# Altium schematic symbol library LKAS_EPS.SchLib: 39 symbols (part 2 of 2)
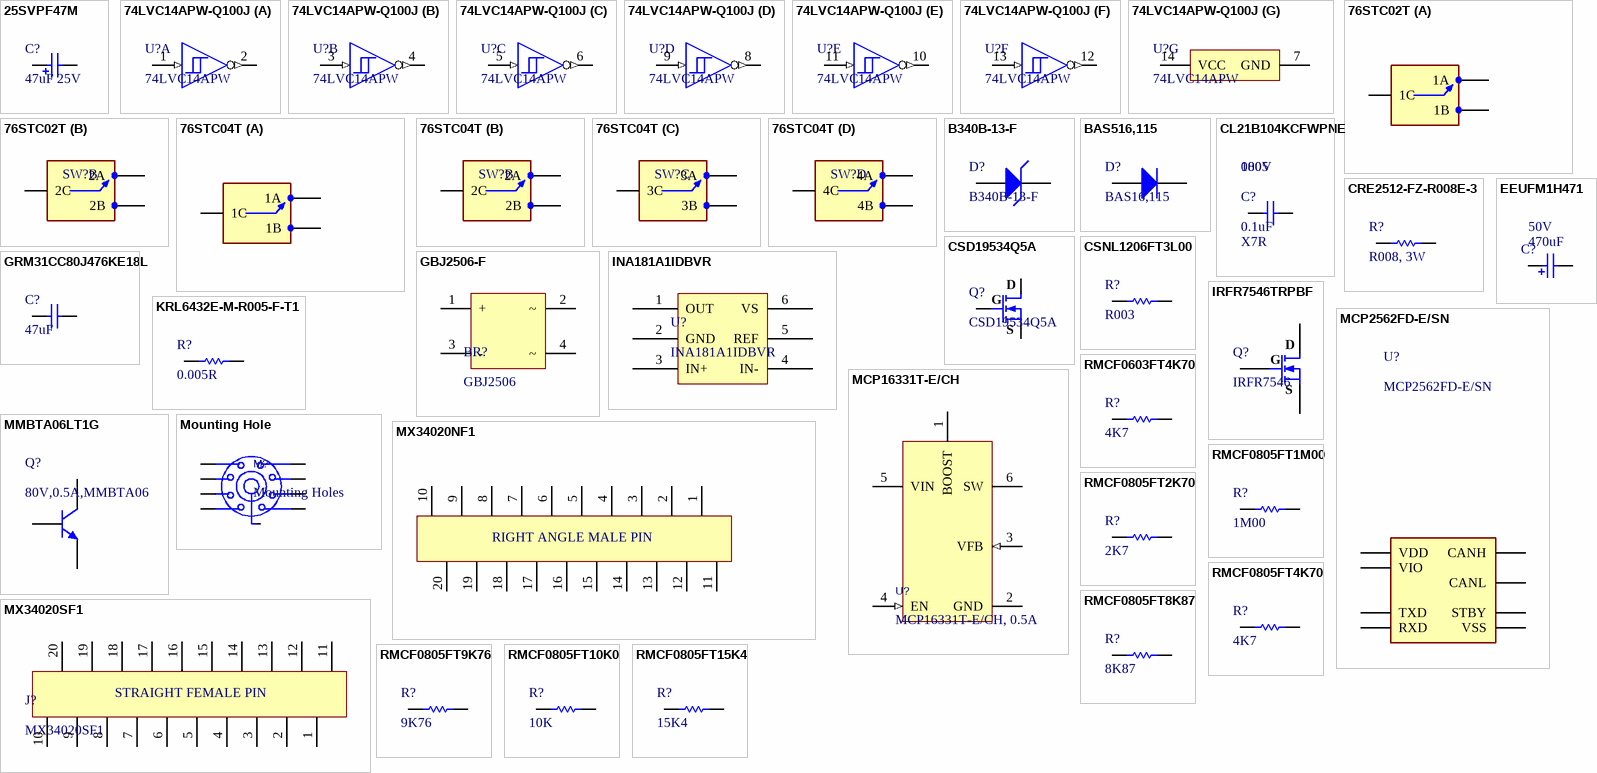
[diagram p2: symbols 25SVPF47M to RMCF0805FT15K4]

## RMCF0805FT9K76
designator R?, comment 9K76
Res Thick Film 0805 9.76K Ohm 1% 1/8W ±100ppm/°C Molded SMD SMD Paper T/R; Manufacturer: Stackpole Electronics; Manufacturer Part Number: RMCF0805FT9K76; Resistance: 9.76kR; Max Power Dissipation: 125mW; Supplier 1: Digi-Key; RoHS: Yes; Category: Chip SMD Resistors; Stock 1: 1481; Pricing 1: 1=0.10000, 10=0.02600, 100=0.01040, 1000=0.00466, 2500=0.00405 (USD); Mount: Surface Mount; Case/Package: 0805; Case Code (Metric): 2012; Case Code (Imperial): 0805; Contact Plating: Tin,Matte; Min Operating Temperature: -55°C; Max Operating Temperature: 155°C; Tolerance: 1%; Packaging: Tape and Reel; Composition: Thick Film; Number of Terminations: 2; Temperature Coefficient: 100ppm/°C; Features: Automotive AEC-Q200; Length: 0.079inch; Height: 0.026inch; Width: 0.049inch; Radiation Hardening: No; ComponentLink1URL: https://www.seielect.com/Catalog/SEI-RMCF_RMCP.pdf?src-supplier=Digi-Key; ComponentLink1Description: https://www.seielect.com/Catalog/SEI-RMCF_RMCP.pdf?src-supplier=Digi-Key; ComponentLink2URL: https://www.seielect.com/catalog/SEI-RMCF_RMCP.pdf?src-supplier=Avnet; ComponentLink2Description: https://www.seielect.com/catalog/SEI-RMCF_RMCP.pdf?src-supplier=Avnet; ComponentLink3URL: https://www.seielect.com/catalog/SEI-Packaging.pdf?src-supplier=Digi-Key; ComponentLink3Description: https://www.seielect.com/catalog/SEI-Packaging.pdf?src-supplier=Digi-Key; Supplier Part Number 1: RMCF0805FT9K76CT-ND
footprint R0805
pins: 1, 2

## RMCF0805FT10K0
designator R?, comment 10K
RES 10K OHM 1% 1/8W 0805; Manufacturer: Stackpole Electronics; Manufacturer Part Number: RMCF0805FT10K0; Resistance: 10kR; Power Rating: 125mW; Temperature Coefficient: 100ppm/°C; Supplier 1: Digi-Key; Stock 1: 3695260; Pricing 1: 1=0.10000, 10=0.02700, 100=0.01090, 1000=0.00490, 2500=0.00425 (USD); RoHS: Yes; Mount: Surface Mount; Case/Package: 0805; Case Code (Metric): 2012; Case Code (Imperial): 0805; Contact Plating: Tin,Matte; Min Operating Temperature: -55°C; Max Operating Temperature: 155°C; Tolerance: 1%; Packaging: Tape and Reel; Composition: Thick Film; Number of Terminations: 2; Military Standard: Not; Max Power Dissipation: 125mW; Features: Automotive AEC-Q200; Length: 2mm; Height: 0.026inch; Width: 0.049inch; Depth: 1.25mm; Radiation Hardening: No; Lead Free: Lead Free; ComponentLink1URL: https://datasheet.ciiva.com/15193/getdatasheetpartid-362046-15193525.pdf?src-supplier=Verical; ComponentLink1Description: https://datasheet.ciiva.com/15193/getdatasheetpartid-362046-15193525.pdf?src-supplier=Verical; Supplier Part Number 1: RMCF0805FT10K0CT-ND
footprint R0805
pins: 1, 2

## RMCF0805FT15K4
designator R?, comment 15K4
RES 15.4K OHM 1% 1/8W 0805; Manufacturer: Stackpole Electronics; Manufacturer Part Number: RMCF0805FT15K4; Resistance: 15.4kR; Max Power Dissipation: 125mW; Temperature Coefficient: 100ppm/°C; Supplier 1: Digi-Key; RoHS: Yes; Category: Chip SMD Resistors; Stock 1: 1287; Pricing 1: 1=0.10000, 10=0.02600, 100=0.01040, 1000=0.00466, 2500=0.00405 (USD); Mount: Surface Mount; Case/Package: 0805; Case Code (Metric): 2012; Case Code (Imperial): 0805; Contact Plating: Tin,Matte; Min Operating Temperature: -55°C; Max Operating Temperature: 155°C; Tolerance: 1%; Packaging: Tape and Reel; Composition: Thick Film; Number of Terminations: 2; Military Standard: Not; Features: Automotive AEC-Q200; Length: 0.079inch; Height: 0.026inch; Width: 0.049inch; Depth: 1.25mm; Radiation Hardening: No; ComponentLink1URL: https://datasheet.ciiva.com/26835/getdatasheetpartid-701388-26835687.pdf?src-supplier=Verical; ComponentLink1Description: https://datasheet.ciiva.com/26835/getdatasheetpartid-701388-26835687.pdf?src-supplier=Verical; Supplier Part Number 1: RMCF0805FT15K4CT-ND
footprint r0805
pins: 1, 2

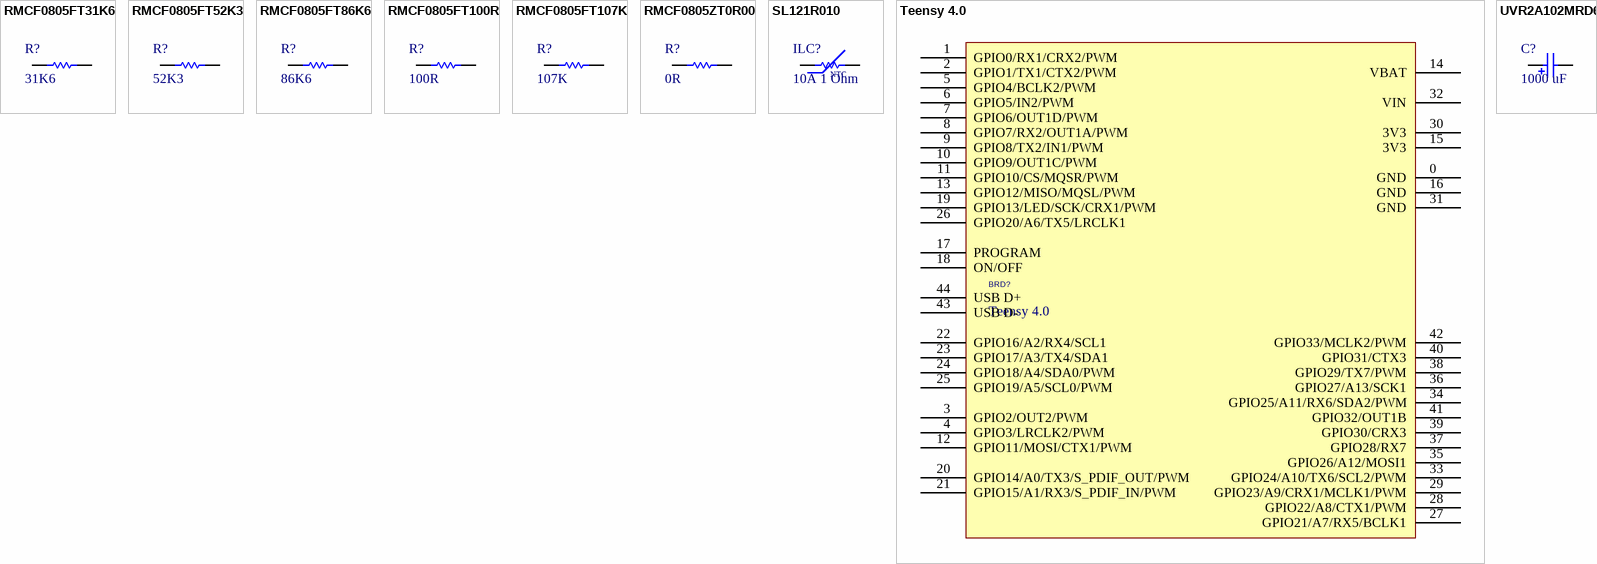
[diagram p1: symbols RMCF0805FT31K6 to UVR2A102MRD6]

## RMCF0805FT31K6
designator R?, comment 31K6
Res Thick Film 0805 31.6K Ohm 1% 0.125W ±100ppm/°C Molded SMD Paper T/R; Manufacturer 1: Stackpole Electronics; Manufacturer Part Number 1: RMCF0805FT31K6; Resistance: 31.6kR; Max Power Dissipation: 125mW; Supplier 1: Digi-Key; Stock 1: 22142; Pricing 1: 1=0.10000, 10=0.02600, 100=0.01040, 1000=0.00466, 2500=0.00405 (USD); RoHS: Yes; Mount: Surface Mount; Case/Package: 0805; Case Code (Metric): 2012; Case Code (Imperial): 0805; Contact Plating: Tin,Matte; Min Operating Temperature: -55°C; Max Operating Temperature: 155°C; Tolerance: 1%; Packaging: Tape and Reel; Composition: Thick Film; Number of Terminations: 2; Military Standard: Not; Temperature Coefficient: 100ppm/°C; Features: Automotive AEC-Q200; Length: 0.079inch; Height: 0.026inch; Width: 0.049inch; Depth: 1.25mm; Radiation Hardening: No; ComponentLink1URL: http://components.arrow.com/part/dataview/47794280S7088040N1174?src-supplier=Arrow; ComponentLink1Description: http://components.arrow.com/part/dataview/47794280S7088040N1174?src-supplier=Arrow; ComponentLink2URL: https://www.seielect.com/Catalog/SEI-RMCF_RMCP.pdf?src-supplier=Digi-Key; ComponentLink2Description: https://www.seielect.com/Catalog/SEI-RMCF_RMCP.pdf?src-supplier=Digi-Key; ComponentLink3URL: https://www.seielect.com/catalog/SEI-RMCF_RMCP.pdf?src-supplier=Avnet; ComponentLink3Description: https://www.seielect.com/catalog/SEI-RMCF_RMCP.pdf?src-supplier=Avnet; ComponentLink4URL: https://www.verical.com/server-webapp/html/getDatasheet?partID=409755&src-supplier=Verical; ComponentLink4Description: https://www.verical.com/server-webapp/html/getDatasheet?partID=409755&src-supplier=Verical; Supplier Part Number 1: RMCF0805FT31K6CT-ND
footprint R0805
pins: 1, 2

## RMCF0805FT52K3
designator R?, comment 52K3
Res Thick Film 0805 52.3K Ohm 1% 1/8W ±100ppm/°C Molded SMD SMD Paper T/R; Manufacturer: Stackpole Electronics; Manufacturer Part Number: RMCF0805FT52K3; Resistance: 52.3kR; Max Power Dissipation: 125mW; Supplier 1: Digi-Key; Stock 1: 9959; Pricing 1: 1=0.10000, 10=0.02700, 100=0.01090, 1000=0.00490, 2500=0.00425 (USD); RoHS: Yes; Mount: Surface Mount; Case/Package: 0805; Case Code (Metric): 2012; Case Code (Imperial): 0805; Contact Plating: Tin,Matte; Min Operating Temperature: -55°C; Max Operating Temperature: 155°C; Tolerance: 1%; Packaging: Tape and Reel; Composition: Thick Film; Number of Terminations: 2; Temperature Coefficient: 100ppm/°C; Features: Automotive AEC-Q200; Length: 0.079inch; Height: 0.026inch; Width: 0.049inch; Radiation Hardening: No; Lead Free: Lead Free; ComponentLink1URL: http://components.arrow.com/part/dataview/50572441S9801371N1174?src-supplier=Arrow; ComponentLink1Description: http://components.arrow.com/part/dataview/50572441S9801371N1174?src-supplier=Arrow; ComponentLink2URL: https://www.seielect.com/Catalog/SEI-RMCF_RMCP.pdf?src-supplier=Digi-Key; ComponentLink2Description: https://www.seielect.com/Catalog/SEI-RMCF_RMCP.pdf?src-supplier=Digi-Key; ComponentLink3URL: https://www.seielect.com/catalog/SEI-RMCF_RMCP.pdf?src-supplier=Avnet; ComponentLink3Description: https://www.seielect.com/catalog/SEI-RMCF_RMCP.pdf?src-supplier=Avnet; Supplier Part Number 1: RMCF0805FT52K3CT-ND
footprint R0805
pins: 1, 2

## RMCF0805FT86K6
designator R?, comment 86K6
Res Thick Film 0805 86.6K Ohm 1% 1/8W ±100ppm/°C Molded SMD SMD Paper T/R; Manufacturer: Stackpole Electronics; Manufacturer Part Number: RMCF0805FT86K6; Resistance: 86.6kR; Max Power Dissipation: 125mW; Supplier 1: Digi-Key; RoHS: Yes; Category: Chip SMD Resistors; Stock 1: 123; Pricing 1: 1=0.10000, 10=0.02600, 100=0.01040, 1000=0.00466, 2500=0.00405 (USD); Mount: Surface Mount; Case/Package: 0805; Case Code (Metric): 2012; Case Code (Imperial): 0805; Contact Plating: Tin,Matte; Min Operating Temperature: -55°C; Max Operating Temperature: 155°C; Packaging: Tape and Reel; Tolerance: 1%; Composition: Thick Film; Number of Terminations: 2; Temperature Coefficient: 100ppm/°C; Features: Automotive AEC-Q200; Length: 0.079inch; Height: 0.026inch; Width: 0.049inch; Radiation Hardening: No; ComponentLink1URL: http://components.arrow.com/part/dataview/47101934S7077115N1174?src-supplier=Arrow; ComponentLink1Description: http://components.arrow.com/part/dataview/47101934S7077115N1174?src-supplier=Arrow; ComponentLink2URL: https://www.seielect.com/catalog/SEI-RMCF_RMCP.pdf?src-supplier=Avnet; ComponentLink2Description: https://www.seielect.com/catalog/SEI-RMCF_RMCP.pdf?src-supplier=Avnet; ComponentLink3URL: https://www.seielect.com/Catalog/SEI-RMCF_RMCP.pdf?src-supplier=Digi-Key; ComponentLink3Description: https://www.seielect.com/Catalog/SEI-RMCF_RMCP.pdf?src-supplier=Digi-Key; Supplier Part Number 1: RMCF0805FT86K6CT-ND
footprint R0805
pins: 1, 2

## RMCF0805FT100R
designator R?, comment 100R
RES 100 OHM 1% 1/8W 0805; Manufacturer: Stackpole Electronics; Manufacturer Part Number: RMCF0805FT100R; Power Rating: 250mW; Max Power Dissipation: 125mW; Temperature Coefficient: 100ppm/°C; Supplier 1: Digi-Key; RoHS: Yes; Category: Chip SMD Resistors; Stock 1: 77749; Pricing 1: 1=0.10000, 10=0.02600, 100=0.01040, 1000=0.00466, 2500=0.00405 (USD); Mount: Surface Mount; Case/Package: 0805; Case Code (Metric): 2012; Case Code (Imperial): 0805; Contact Plating: Tin,Matte; Min Operating Temperature: -55°C; Max Operating Temperature: 155°C; Tolerance: 1%; Packaging: Tape and Reel; Resistance: 100R; Composition: Thick Film; Number of Terminations: 2; Military Standard: Not; Features: Automotive AEC-Q200; Length: 2mm; Height: 0.026inch; Width: 0.049inch; Depth: 1.25mm; Radiation Hardening: No; Lead Free: Lead Free; ComponentLink1URL: http://components.arrow.com/part/dataview/44988339S7171742N1174?src-supplier=Arrow; ComponentLink1Description: http://components.arrow.com/part/dataview/44988339S7171742N1174?src-supplier=Arrow; ComponentLink2URL: http://www.seielect.com/Catalog/SEI-RMC.pdf?src-supplier=Future+Electronics; ComponentLink2Description: http://www.seielect.com/Catalog/SEI-RMC.pdf?src-supplier=Future+Electronics; ComponentLink3URL: https://www.seielect.com/catalog/SEI-RMCF_RMCP.pdf?src-supplier=Avnet; ComponentLink3Description: https://www.seielect.com/catalog/SEI-RMCF_RMCP.pdf?src-supplier=Avnet; ComponentLink4URL: https://www.verical.com/server-webapp/html/getDatasheet?partID=359908&src-supplier=Verical; ComponentLink4Description: https://www.verical.com/server-webapp/html/getDatasheet?partID=359908&src-supplier=Verical; ComponentLink5URL: https://www.seielect.com/catalog/SEI-Packaging.pdf?src-supplier=Digi-Key; ComponentLink5Description: https://www.seielect.com/catalog/SEI-Packaging.pdf?src-supplier=Digi-Key; Supplier Part Number 1: RMCF0805FT100RCT-ND
footprint R0805
pins: 1, 2

## RMCF0805FT107K
designator R?, comment 107K
Res Thick Film 0805 107K Ohm 1% 0.125W(1/8W) ±100ppm/C Pad SMD Automotive T/R; Manufacturer: Stackpole Electronics; Manufacturer Part Number: RMCF0805FT107K; Resistance: 107kR; Max Power Dissipation: 125mW; Temperature Coefficient: 100ppm/°C; Supplier 1: Digi-Key; RoHS: Yes; Category: Chip SMD Resistors; Stock 1: 4513; Pricing 1: 1=0.10000, 10=0.02600, 100=0.01040, 1000=0.00466, 2500=0.00405 (USD); Mount: Surface Mount; Case/Package: 0805; Case Code (Metric): 2012; Case Code (Imperial): 0805; Contact Plating: Tin,Matte; Min Operating Temperature: -55°C; Max Operating Temperature: 155°C; Package Quantity: 5000; Packaging: Tape and Reel; Tolerance: 1%; Composition: Thick Film; Number of Terminations: 2; Features: Automotive AEC-Q200; Length: 0.079inch; Height: 0.026inch; Width: 0.049inch; Radiation Hardening: No; ComponentLink1URL: https://www.seielect.com/Catalog/SEI-RMCF_RMCP.pdf?src-supplier=Digi-Key; ComponentLink1Description: https://www.seielect.com/Catalog/SEI-RMCF_RMCP.pdf?src-supplier=Digi-Key; ComponentLink2URL: https://www.seielect.com/catalog/SEI-RMCF_RMCP.pdf?src-supplier=Avnet; ComponentLink2Description: https://www.seielect.com/catalog/SEI-RMCF_RMCP.pdf?src-supplier=Avnet; Supplier Part Number 1: 738-RMCF0805FT107KCT-ND
footprint R0805
pins: 1, 2

## RMCF0805ZT0R00
designator R?, comment 0R
RES 0 OHM JUMPER 1/8W 0805; Manufacturer: Stackpole Electronics; Manufacturer Part Number: RMCF0805ZT0R00; Resistance: 0mR; Power Rating: 125mW; Supplier 1: Digi-Key; RoHS: Yes; Category: Chip SMD Resistors; Stock 1: 626052; Pricing 1: 1=0.10000, 10=0.01900, 25=0.01400, 50=0.01060, 100=0.00780, 250=0.00596, 500=0.00476, 1000=0.00350 (USD); Mount: Surface Mount; Case/Package: 0805; Case Code (Metric): 2012; Case Code (Imperial): 0805; Contact Plating: Tin,Matte; Min Operating Temperature: -55°C; Max Operating Temperature: 155°C; Packaging: Tape and Reel; Composition: Thick Film; Number of Terminations: 2; Military Standard: Not; Max Power Dissipation: 125mW; Features: Automotive AEC-Q200; Length: 2mm; Height: 0.026inch; Width: 0.049inch; Depth: 1.25mm; Radiation Hardening: No; Lead Free: Lead Free; ComponentLink1URL: https://datasheet.ciiva.com/15193/getdatasheetpartid-360417-15193658.pdf?src-supplier=Verical; ComponentLink1Description: https://datasheet.ciiva.com/15193/getdatasheetpartid-360417-15193658.pdf?src-supplier=Verical; Supplier Part Number 1: RMCF0805ZT0R00CT-ND
footprint R0805
pins: 1, 2

## SL121R010
designator ILC?, comment 10A 1 Ohm
ICL 1 OHM 20% 10A 12MM; Manufacturer: Ametherm; Manufacturer Part Number: SL121R010; Resistance: 1R; Supplier 1: Digi-Key; RoHS: Yes; Category: Thermistors; Stock 1: 4516; Pricing 1: 1=0.81000, 5=0.79000, 10=0.76500, 50=0.64400, 100=0.53460, 250=0.48600, 500=0.41310, 1000=0.36450, 5000=0.32805 (USD); Mount: Through Hole; Number of Pins: 2; Package Quantity: 1; Packaging: Bulk; Tolerance: 20%; Diameter: 0.472inch; Lead Pitch: 0.307inch; ComponentLink1URL: https://datasheet.ciiva.com/325/sl121r010-325236.pdf?src-supplier=Digi-Key; ComponentLink1Description: https://datasheet.ciiva.com/325/sl121r010-325236.pdf?src-supplier=Digi-Key; ComponentLink2URL: https://datasheet.ciiva.com/2850/sl121r010-2850759.pdf?src-supplier=Digi-Key; ComponentLink2Description: https://datasheet.ciiva.com/2850/sl121r010-2850759.pdf?src-supplier=Digi-Key; Supplier Part Number 1: 570-1077-ND
footprint SL12
pins: 1, 2
text: NTC

## Teensy 4.0
designator BRD?
footprint tEENSY 4.0
pins: 0 GND, 1 GPIO0/RX1/CRX2/PWM, 2 GPIO1/TX1/CTX2/PWM, 3 GPIO2/OUT2/PWM, 4 GPIO3/LRCLK2/PWM, 5 GPIO4/BCLK2/PWM, 6 GPIO5/IN2/PWM, 7 GPIO6/OUT1D/PWM, 8 GPIO7/RX2/OUT1A/PWM, 9 GPIO8/TX2/IN1/PWM, 10 GPIO9/OUT1C/PWM, 11 GPIO10/CS/MQSR/PWM, 12 GPIO11/MOSI/CTX1/PWM, 13 GPIO12/MISO/MQSL/PWM, 14 VBAT, 15 3V3, 16 GND, 17 PROGRAM, 18 ON/OFF, 19 GPIO13/LED/SCK/CRX1/PWM, 20 GPIO14/A0/TX3/S_PDIF_OUT/PWM, 21 GPIO15/A1/RX3/S_PDIF_IN/PWM, 22 GPIO16/A2/RX4/SCL1, 23 GPIO17/A3/TX4/SDA1, 24 GPIO18/A4/SDA0/PWM, 25 GPIO19/A5/SCL0/PWM, 26 GPIO20/A6/TX5/LRCLK1, 27 GPIO21/A7/RX5/BCLK1, 28 GPIO22/A8/CTX1/PWM, 29 GPIO23/A9/CRX1/MCLK1/PWM, 30 3V3, 31 GND, 32 VIN, 33 GPIO24/A10/TX6/SCL2/PWM, 34 GPIO25/A11/RX6/SDA2/PWM, 35 GPIO26/A12/MOSI1, 36 GPIO27/A13/SCK1, 37 GPIO28/RX7, 38 GPIO29/TX7/PWM, 39 GPIO30/CRX3, 40 GPIO31/CTX3, 41 GPIO32/OUT1B, 42 GPIO33/MCLK2/PWM, 43 USB D-, 44 USB D+

## UVR2A102MRD6
designator C?, comment 1000 uF
Aluminum Electrolytic Capacitors - Leaded 1000uF 100V 85c; Manufacturer: Nichicon; Manufacturer Part Number: UVR2A102MRD6; Capacitance: 1mF; Tolerance: 20%; Ripple Current: 1.38A; Polarity: Polar; Life (Hours): 2000Hour; Dissipation Factor: 0.08%; Lead/Base Style: Straight; Supplier 1: Digi-Key; RoHS: Yes; Category: Aluminum Electrolytic Capacitors; Stock 1: 846; Pricing 1: 1=1.81000, 10=1.46300, 100=1.11740, 500=0.85136, 1000=0.74494, 2500=0.72366 (USD); Mount: Through Hole; Case/Package: Radial; Min Operating Temperature: -40°C; Max Operating Temperature: 85°C; Packaging: Bulk; Package Quantity: 50; Voltage Rating: 100V; Voltage Rating (DC): 100V; Termination: Radial; Length: 35mm; Lead Pitch: 7.5mm; ComponentLink1URL: http://www.mouser.com/ds/2/293/e-uvr-1076495.pdf?src-supplier=Mouser; ComponentLink1Description: http://www.mouser.com/ds/2/293/e-uvr-1076495.pdf?src-supplier=Mouser; ComponentLink2URL: http://nichicon-us.com/english/products/pdfs/e-uvr.pdf?src-supplier=Digi-Key; ComponentLink2Description: http://nichicon-us.com/english/products/pdfs/e-uvr.pdf?src-supplier=Digi-Key; Supplier Part Number 1: 493-14310-ND
footprint CAP18x40
pins: 1, 2